# EAGLE library part 53047-08 (library SCADA_CUSTOM_LIBRARY)
CONNECTOR wire to board 1.25 mm (.049 inch) pitch header
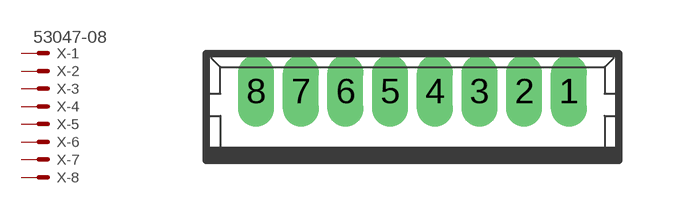
[diagram p2: symbol with the pads of 53047-08; footprint 53047-08]

Designator prefix X; gates -1=MV -2=M -3=M -4=M -5=M -6=M -7=M -8=M

## 53047-08047 (MF: MOLEX; MPN: 53047-0810; OC_FARNELL: 1012258; OC_NEWARK: 98K9826)  [53047-08]
1  -1:S  pas
2  -2:S  pas
3  -3:S  pas
4  -4:S  pas
5  -5:S  pas
6  -6:S  pas
7  -7:S  pas
8  -8:S  pas

## Footprint 53047-08 (pad centres in mm)
1.25mm Pitch PicoBlade™ Wire-to-Board Header, Vertical, with Friction Lock, 8 Circuits Datasheet <http://www.molex.com/pdm_docs/sd/530470810_sd.pdf>
drill 0.5 pad 0.698 long: 1 4.375,0.45; 2 3.125,0.45; 3 1.875,0.45; 4 0.625,0.45; 5 -0.625,0.45; 6 -1.875,0.45; 7 -3.125,0.45; 8 -4.375,0.45